# Altium schematic symbol library SchemLib.SchLib: 5 symbols
Pins are listed as number, name and electrical type; pins without a type are passive.

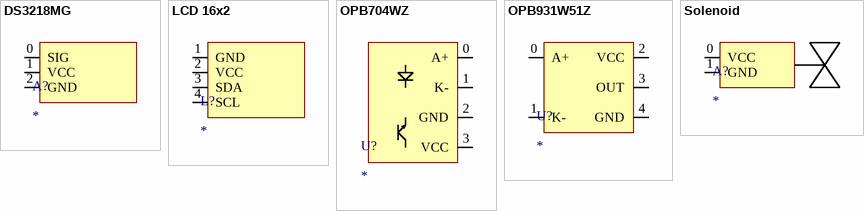
[diagram p0: symbols DS3218MG to Solenoid]

## DS3218MG
designator A?
270 Degree Servo; ComponentLink1Description: Datasheet; ComponentLink1URL: https://images-na.ssl-images-amazon.com/images/I/81Lbgu+nG6L.pdf; ComponentLink2Description: Supplier Link; ComponentLink2URL: https://www.amazon.com/ANNIMOS-Digital-Waterproof-DS3218MG-Control/dp/B076CNKQX4
pins: 0 SIG, 1 VCC, 2 GND

## LCD 16x2
designator L?
Liquid I2C LCD 16x2 Display
pins: 1 GND, 2 VCC, 3 SDA, 4 SCL

## OPB704WZ
designator U?
pins: 0 A+, 1 K-, 2 GND, 3 VCC

## OPB931W51Z
designator U?
Photogate Interrupter; Supplier 1: Newark; Supplier Part Number 1: 73K1183; ComponentLink1Description: Datasheet; ComponentLink1URL: https://www.ttelectronics.com/TTElectronics/media/ProductFiles/Datasheet/OPB930-940-L-W.pdf
pins: 0 A+, 1 K-, 2 VCC, 3 OUT, 4 GND

## Solenoid
designator A?
pins: 0 VCC, 1 GND